# Altium schematic symbol library ISP_medium_sch.SchLib: 17 symbols
Pins are listed as number, name and electrical type; pins without a type are passive.

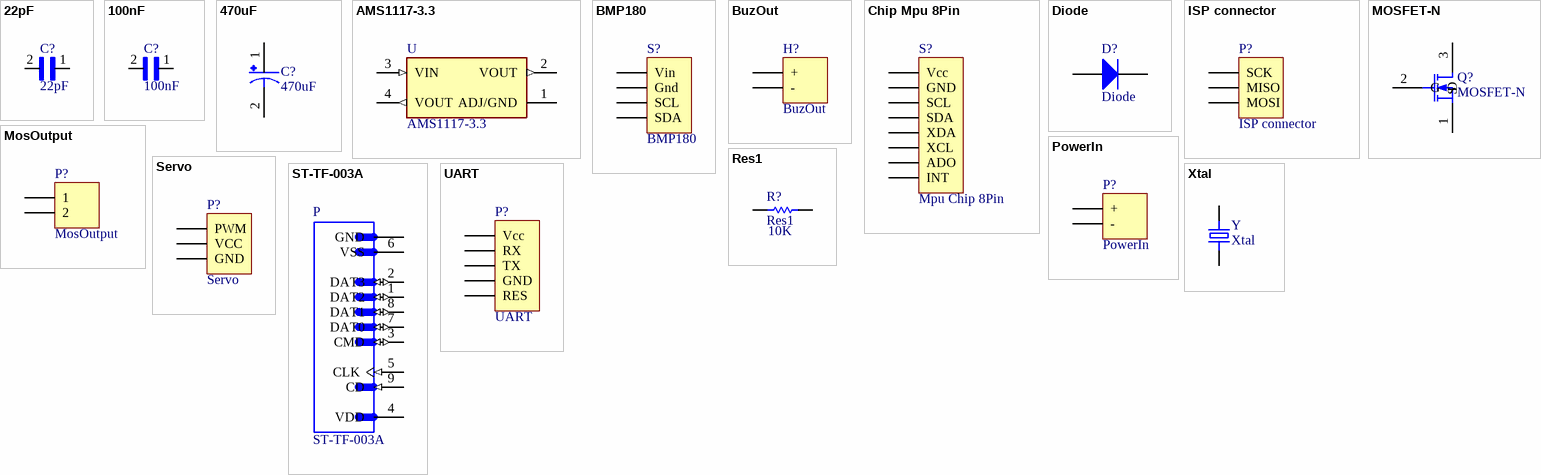
[diagram p0: symbols 22pF to Xtal]

## 22pF
designator C?
SMD Capacitor X6S(EIA) with Capacitance: 22pF; MF: Murata; MP: GRM319C81C106MA12J; Value: *; Price: None; Package: 1206 Murata; SnapEDA_Link: https://www.snapeda.com/parts/GRM319C81C106MA12J/Murata/view-part/1894707/?ref=snap; Availability: Warning; Purchase-URL: https://pricing.snapeda.com/search/part/GRM319C81C106MA12J/?ref=eda; Check_prices: https://www.snapeda.com/parts/GRM319C81C106MA12J/Murata/view-part/1894707/?ref=eda
footprint CAP1602
pins: 1, 2

## 100nF
designator C?
SMD Capacitor X6S(EIA) with Capacitance: 22pF; MF: Murata; MP: GRM319C81C106MA12J; Value: *; Price: None; Package: 1206 Murata; SnapEDA_Link: https://www.snapeda.com/parts/GRM319C81C106MA12J/Murata/view-part/1894707/?ref=snap; Availability: Warning; Purchase-URL: https://pricing.snapeda.com/search/part/GRM319C81C106MA12J/?ref=eda; Check_prices: https://www.snapeda.com/parts/GRM319C81C106MA12J/Murata/view-part/1894707/?ref=eda
footprint CAP1602
pins: 1, 2

## 470uF
designator C?
470µF 16V Aluminum Electrolytic Capacitors Radial; MF: Panasonic; MP: EEE-FC1C471AP; Value: *; Package: Radial Panasonic; Availability: Unavailable; SnapEDA_Link: https://www.snapeda.com/parts/EEE-FC1C471AP/Panasonic%20Electronic%20Components/view-part/51969/?ref=snap; Price: None
footprint CAPAE7066X77M (Aluminum Electrolytic Capacitor, Body 6.60x6.60x7.70mm, IPC Low Density)
pins: 1 +, 2 -

## AMS1117-3.3
designator U
Sot223/Pkg 1-Amp 3.3-Volt Low Drop Out Voltage Regulatator; MF: Advanced Monolithic Systems; Price: None; Package: None; Value: *; MP: AMS1117-3.3; Availability: Unavailable; SnapEDA_Link: https://www.snapeda.com/parts/AMS1117-3.3/Advanced%20Monolithic%20Systems/view-part/53450/?ref=snap
footprint SOT230P700X180-4N (SOT223, 4-Leads, Body 6.50x7.00mm (avg), Pitch 2.30mm, IPC Medium Density)
pins: 1 ADJ/GND (power), 2 VOUT (out), 3 VIN (in), 4 VOUT (out)

## BMP180
designator S?
Chip Connector 4 Pin for BMP180; LatestRevisionDate: 17-Jul-2002; LatestRevisionNote: Re-released for DXP Platform.; Publisher: Altium Limited
signal-integrity model Connector
footprint BMP280 (Connector; 4 Pins for I2C)
pins: 1 Vin, 2 Gnd, 3 SCL, 4 SDA

## BuzOut
designator H?
Header, 2-Pin; LatestRevisionDate: 17-Jul-2002; LatestRevisionNote: Re-released for DXP Platform.; Publisher: Altium Limited
footprint HDR1X2 (Connector; Header; 2 Position)
signal-integrity model Connector
pins: 1 +, 2 -

## Chip Mpu 8Pin
designator S?, comment Mpu Chip 8Pin
Chip Mpu 8Pin; LatestRevisionDate: 17-Jul-2002; LatestRevisionNote: Re-released for DXP Platform.; Publisher: Altium Limited
signal-integrity model Connector
footprint Mpu 8Pin (Connector; Header; 8 Position)
pins: 1 Vcc, 2 GND, 3 SCL, 4 SDA, 5 XDA, 6 XCL, 7 ADO, 8 INT

## Diode
designator D?
Default Diode; Published: 8-Jun-2000; LatestRevisionDate: 17-Jul-2002; LatestRevisionNote: Re-released for DXP Platform.; PackageVersion: Sep-1996; PackageReference: SMC; Publisher: Altium Limited; PackageDescription: DO-214-AB/SMC; 2 C-Bend Leads; Body 7.9 x 5.9 mm, inc. leads (LxW); Code_JEDEC: DO-214-AB
simulation model DIODE (Diode)
signal-integrity model Diode
footprint DIOM4227X24N (Molded Diode, 2-Leads, Body 4.25x2.69mm, IPC Medium Density)
pins: 1 A, 2 K

## ISP connector
designator P?
Header, 3-Pin; LatestRevisionDate: 17-Jul-2002; LatestRevisionNote: Re-released for DXP Platform.; Publisher: Altium Limited
signal-integrity model Connector
footprint ISP connector (Connector; Header; 3 Position)
pins: 1 SCK, 2 MISO, 3 MOSI

## MOSFET-N
designator Q?
N-Channel MOSFET; Published: 8-Jun-2000; LatestRevisionDate: 17-Jul-2002; LatestRevisionNote: Re-released for DXP Platform.; PackageVersion: 1995/1996; PackageReference: E3; Publisher: Altium Limited; PackageDescription: TO, Flat Index; 3 In-Line, Axial Leads; Body Dia. 4.6mm; Lead Dia. 0.5 mm (max)
footprint SOT23-3; pin to pad 1>2 2>1
simulation model NMOS (MOSFET-N)
pins: 1 S, 2 G, 3 D

## MosOutput
designator P?
Header, 2-Pin; LatestRevisionDate: 17-Jul-2002; LatestRevisionNote: Re-released for DXP Platform.; Publisher: Altium Limited
footprint HDR1X2 (Connector; Header; 2 Position)
signal-integrity model Connector
pins: 1, 2

## PowerIn
designator P?
Header, 2-Pin; LatestRevisionDate: 17-Jul-2002; LatestRevisionNote: Re-released for DXP Platform.; Publisher: Altium Limited
signal-integrity model Connector
footprint PowerIn (Connector; Header; 2 Position)
pins: 1 +, 2 -

## Res1
designator R?  value 10K
Resistor; Published: 8-Jun-2000; LatestRevisionDate: 17-Jul-2002; LatestRevisionNote: Re-released for DXP Platform.; PackageReference: AXIAL-0.3; Publisher: Altium Limited; PackageDescription: Axial Device, Thru-Hole; 2 Leads; 0.3 in Pin Spacing
simulation model RESISTOR (Resistor)
signal-integrity model Res
footprint RES 1602
pins: 1, 2

## Servo
designator P?
Header, 3-Pin; LatestRevisionDate: 17-Jul-2002; LatestRevisionNote: Re-released for DXP Platform.; Publisher: Altium Limited
signal-integrity model Connector
footprint Servo (Connector; Header; 3 Position)
pins: 1 PWM, 2 VCC, 3 GND

## ST-TF-003A
designator P
Micro SD Card Socket; MF: Suntech; Value: *; Price: None; Package: None; SnapEDA_Link: https://www.snapeda.com/parts/ST-TF-003A/Suntech/view-part/214778/?ref=snap; Availability: Unavailable; MP: ST-TF-003A
footprint MicroSD
pins: 1 DAT2 (io), 2 DAT3 (io), 3 CMD (io), 4 VDD (power), 5 CLK (in), 6 VSS, 7 DAT0 (io), 8 DAT1 (io), 9 CD (in), G1 GND, G2 GND, G3 GND, G4 GND

## UART
designator P?
Header, 5-Pin, UART, for uploading; LatestRevisionDate: 17-Jul-2002; LatestRevisionNote: Re-released for DXP Platform.; Publisher: Altium Limited
signal-integrity model Connector
footprint UART (Connector; Header; 5 Position, UART, for uploading)
pins: 1 Vcc, 2 RX, 3 TX, 4 GND, 5 RES

## Xtal
designator Y
MP: ECS-122.8-18-5PXEN-TR; MF: ECS Inc.; DigiKey-Purchase-URL: https://snapeda.com/shop?store=DigiKey&id=2461451; Availability: Good; Arrow_Electronics-Purchase-URL: https://snapeda.com/shop?store=Arrow+Electronics&id=2461451; Package: HC49/US ECS International; Mouser-Purchase-URL: https://snapeda.com/shop?store=Mouser&id=2461451; Value: *; SnapEDA_Link: https://www.snapeda.com/parts/ECS-122.8-18-5PXEN-TR/ECS%20Inc./view-part/2461451/?ref=snap; Price: None
footprint XTAL
pins: 1, 2